# Altium footprint library MyLib_Resistors.PcbLib: 6 footprints
Each footprint in its own frame and in the unit in brackets; x right, y up, seen from the top. Pads: shape width x height; smd on the part's side, far side on the other; paste and mask are expansions set on the pad; w line width, h text height; cw(c..) or ccw(c..) is an arc to the next point about the centre after c.
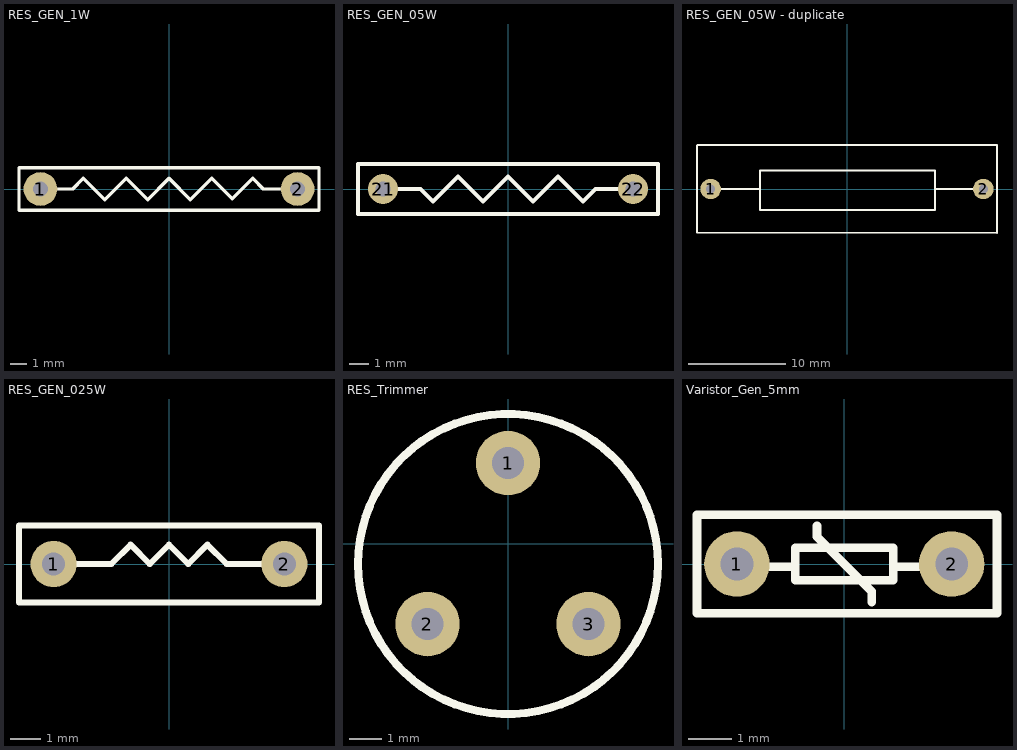
[diagram p0: the footprints below, top view; thin cyan lines are the x and y axes]

## RES_GEN_1W [mm] "1W Resistor"
pads (2):
  round 2 hole 0.9: 1(-7.62,0) 2(7.62,0)
Top Overlay:
  lines w0.2: -7.62,0 -5.715,0 -5.08,0.635 -3.81,-0.635 -2.54,0.635 -1.27,-0.635 0,0.635 1.27,-0.635 2.54,0.635 3.746,-0.572 4.953,0.635 5.588,0 7.62,0 ; -8.89,-1.27 -8.89,1.27 8.89,1.27 8.89,-1.27 -8.89,-1.27
3D body "User Library-RES-1W.STEP": height 5, standoff -3, extent -7.97,-2.54 7.97,2.46

## RES_GEN_05W [mil] "0.5W Resistor"
pads (2):
  round 60 hole 30: 21(-250,0) 22(250,0)
Top Overlay:
  lines w7.87: -250,0 -175,0 -150,-25 -100,25 -50,-25 0,25 50,-25 100,25 150,-25 175,0 250,0 ; -300,-50 300,-50 300,50 -300,50 -300,-50
3D body "User Library-Res50-Axial 0_5W-22R.STEP": height 172.24, standoff -196.85, extent -264.77,-73.82 264.76,73.82

## RES_GEN_05W - duplicate [mm] "5W Resistor"
pads (2):
  round 2.1 hole 0.9: 1(-13.97,0) 2(13.97,0)
Top Overlay:
  lines w0.2: -13.97,0 -9.017,0 ; 9.017,0 13.97,0 ; 15.367,-4.5 -15.367,-4.445 -15.367,4.445 -15.312,4.5 15.367,4.5 ; 15.367,-4.445 15.367,4.445 ; -8.89,-2.159 -8.89,1.905 9.017,1.905 9.017,-2.159 -8.89,-2.159
3D body "User Library-RES-5W-High.STEP": height 7.01, standoff -10, extent -14.262,-3 14.478,3

## RES_GEN_025W [mil] "0.25 Resistor"
pads (2):
  round 60 hole 30: 1(-150,0) 2(150,0)
Top Overlay:
  lines w7.87: -127.95,0 -75,0 -50,25 -25,0 0,25 25,0 50,25 75,0 127.95,0 ; -195,-50 195,-50 195,50 -195,50 -195,-50
3D body "User Library-R-Axial-0_25W-7_62.STEP": height 126.09, standoff -118.11, extent -161.8,-47.35 161.82,47.36

## RES_Trimmer [mm] "General Trimmer"
pads (3):
  round 2 hole 1: 1(0,2.5) 2(-2.5,-2.5) 3(2.5,-2.5)
Top Overlay:
  circle w0.254: c0,-0.635 r4.658
3D body "User Library-Pot - RES_VAR1.STEP": height 8, standoff -2.9, extent -3.25,-3.81 3.25,3.24

## Varistor_Gen_5mm [mil]
pads (2):
  round 60 hole 30: 1(-98.43,0) 2(98.43,0)
Top Overlay:
  lines w7.87: -95.93,-2.5 -45,-2.5 ; -25,35 -25,25 25,-25 25,-35 ; 45,-2.5 95.93,-2.5 ; -135,-45 140,-45 140,45 -135,45 -135,-45 ; -45,-15 -45,15 25,15 45,15 45,-15 -45,-15
3D body "User Library-Warystor_5mm.STEP": height 61.69, standoff -433.07, extent -157.48,-49.6 157.49,49.22